# EAGLE library part PULSE_ELECTRONICS-LAN_MAGNETICS-HX1198FNL (library Module_Inductors)
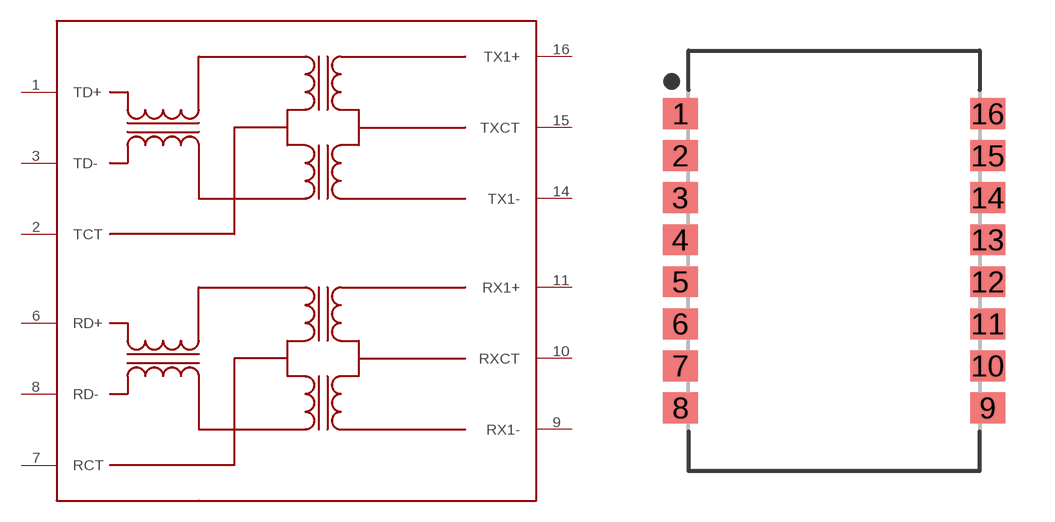
[diagram p2: symbol with the pads of PULSE_ELECTRONICS-LAN_MAGNETICS-HX1198FNL; footprint PULSE_ELECTRONICS-LAN_MAGNETICS-HX1198FNL]

Designator prefix U

## PULSE_ELECTRONICS-LAN_MAGNETICS-HX1198FNL  [PULSE_ELECTRONICS-LAN_MAGNETICS-HX1198FNL]
1  TD+
2  TCT
3  TD-
6  RD+
7  RCT
8  RD-
9  RX1-
10  RXCT
11  RX1+
14  TX1-
15  TXCT
16  TX1+

## Footprint PULSE_ELECTRONICS-LAN_MAGNETICS-HX1198FNL (pad centres in mm)
16-SOIC, 1.27 mm pitch, 9.53 mm span, 12.70 X 8.79 X 6.00 mm body 16-pin SOIC package with 1.27 mm pitch, 9.53 mm span with body size 12.70 X 8.79 X 6.00 mm
smd 1.062 x 0.934: 1 -4.64,4.445; 2 -4.64,3.175; 3 -4.64,1.905; 4 -4.64,0.635; 5 -4.64,-0.635; 6 -4.64,-1.905; 7 -4.64,-3.175; 8 -4.64,-4.445; 9 4.64,-4.445; 10 4.64,-3.175; 11 4.64,-1.905; 12 4.64,-0.635; 13 4.64,0.635; 14 4.64,1.905; 15 4.64,3.175; 16 4.64,4.445